# EAGLE library part LM386 (library Harrington-ICs v35)
LM386 Audio Power Amplifier Texas Instruments - Voltage Rails: 4-12V
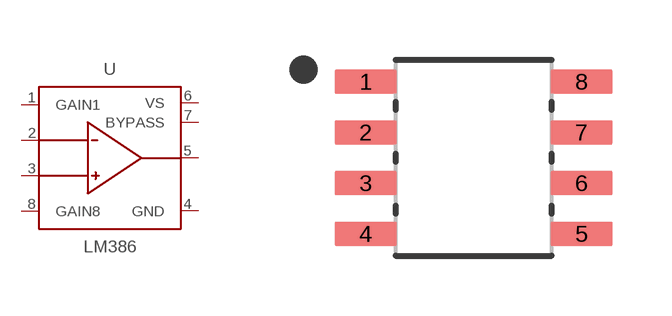
[diagram p2: symbol with the pads of D0008A-SOIC; footprint D0008A-SOIC]

Designator prefix U

## LM386M-1  [D0008A-SOIC]
1  GAIN1
2  -INPUT  in
3  +INPUT  in
4  GND  pwr
5  VOUT  out
6  VS  pwr
7  BYPASS  out
8  GAIN8

## Footprint D0008A-SOIC (pad centres in mm)
smd 1.55 x 0.6: 1 -2.7,1.905; 2 -2.7,0.635; 3 -2.7,-0.635; 4 -2.7,-1.905; 5 2.7,-1.905; 6 2.7,-0.635; 7 2.7,0.635; 8 2.7,1.905